# Altium footprint library WF-2.PcbLib: 1 footprints
Each footprint in its own frame and in the unit in brackets; x right, y up, seen from the top. Pads: shape width x height; smd on the part's side, far side on the other; paste and mask are expansions set on the pad; w line width, h text height; cw(c..) or ccw(c..) is an arc to the next point about the centre after c.
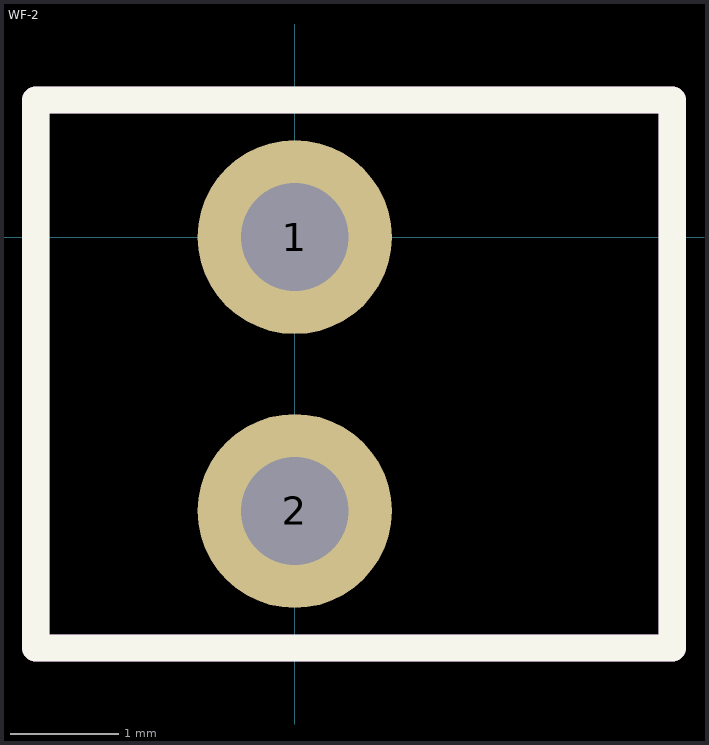
[diagram p0: the footprint, top view; thin cyan lines are the x and y axes]

## WF-2 [mm]
pads (2):
  round 1.8 hole 1: 1(0,0) 2(0,-2.54)
Top Overlay:
  lines w0.254: -2.4,-3.81 3.5,-3.81 ; -2.4,-3.81 -2.4,-3.81 ; -2.4,-3.81 -2.4,1.27 3.5,1.27 3.5,-3.81 ; 3.5,-3.81 3.5,-3.81
TopAssy:
  lines w0.254: -2.4,-3.81 3.5,-3.81 ; -2.4,-3.81 -2.4,-3.81 ; -2.4,-3.81 -2.4,1.27 3.5,1.27 ; 3.5,-3.81 3.5,1.27 ; 3.5,-3.81 3.5,-3.81 ; 3.5,1.27 3.5,1.27
3D body "User Library-DS1070-2 (WF-2 CONNFLY).step": height 11.4, standoff -3.3, extent -2.4,-3.81 3.5,1.27